# Altium footprint library STM32F1_CNC_PcbLib.PcbLib: 33 footprints (part 3 of 3)
Each footprint in its own frame and in the unit in brackets; x right, y up, seen from the top. Pads: shape width x height; smd on the part's side, far side on the other; paste and mask are expansions set on the pad; w line width, h text height; cw(c..) or ccw(c..) is an arc to the next point about the centre after c.
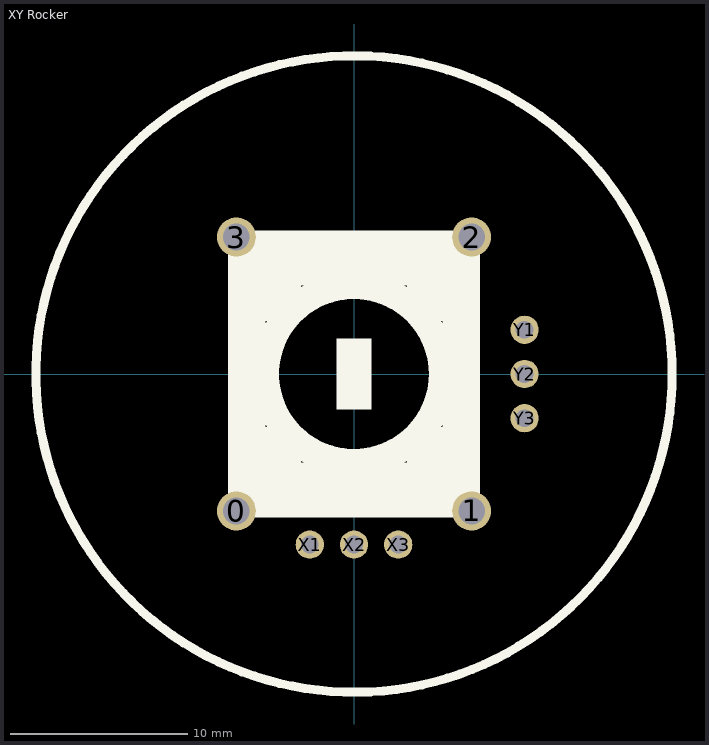
[diagram p2: the footprint, top view; thin cyan lines are the x and y axes]

## XY Rocker [mm]
height 10
pads (10):
  round 2.2 hole 1.5: 0(-6.65,-7.75) 1(6.65,-7.75) 2(6.65,7.75) 3(-6.65,7.75)
  round 1.6 hole 1: X1(-2.5,-9.65) X2(0,-9.65) X3(2.5,-9.65) Y1(9.65,2.5) Y2(9.65,0) Y3(9.65,-2.5)
Top Overlay:
  circle w1.524: c0,0 r5
  circle w0.508: c0,0 r18
  rectangle: -5,3 -4,5
  rectangle: -5,-5 -4,-3
  rectangle: -5,-5 -3,-4
  rectangle: 3,-5 5,-4
  rectangle: 4,-5 5,-3
  rectangle: 4,3 5,5
  rectangle: 3,4 5,5
  rectangle: -5,4 -3,5
  rectangle: -7,5 7,8
  rectangle: 5,-8 7,8
  rectangle: -7,-8 7,-5
  rectangle: -7,-8 -5,8
  rectangle: -1,-2 1,2
  lines w0.254: -7,-8 -7,8 7,8 7,-8 -7,-8